# EAGLE library part 631006136221 (library Wuerth_Elektronik_eiCan_Communication_Connectors_STENCIL)
WR-COM Horizontal Shielded Colored Mini DIN, Color: Purple
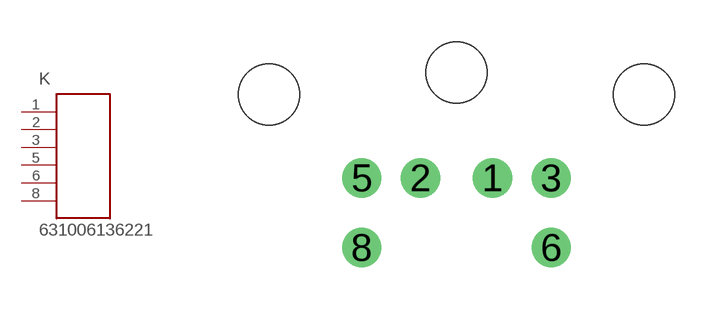
[diagram p1: symbol with the pads of 631006136221; footprint 631006136221]

Designator prefix K

## 631006136221  [631006136221]
1  1  pas
2  2  pas
3  3  pas
5  4  pas
6  5  pas
8  6  pas

## Footprint 631006136221 (pad centres in mm)
WR-COM Horizontal Shielded Colored Mini DIN, Color: Purple
drill 0.9: 1 1.295,-2.99; 2 -1.295,-2.99; 3 3.405,-2.99; 5 -3.405,-2.99; 6 3.405,-5.49; 8 -3.405,-5.49
hole 2.2 at 0,0.81
hole 2.2 at -6.75,0.01
hole 2.2 at 6.75,0.01